# EAGLE library part 1705566 (library con-phoenix-3.81)
MKDSD 1,5/ 4-3,81 Printklemme Nennstrom: 8 A Bemessungsspannung: 200 V Raster: 3,81 mm Polzahl: 4 Montageart: Löten Anschlussart: Schraubanschluss Anschlussrichtung vom Leiter zur Platine: 0° Source: http://eshop.phoenixcontact.com .. 1705566.pdf
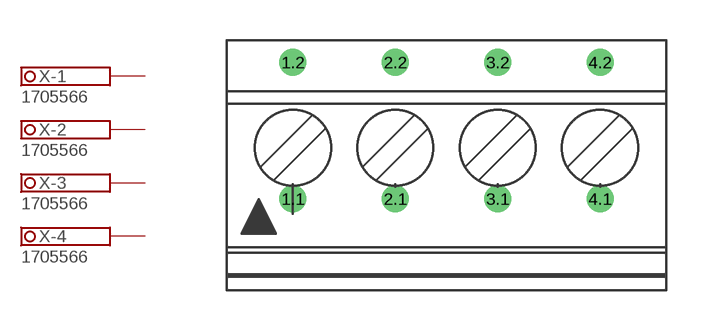
[diagram p3: symbol with the pads of 1705566; footprint 1705566]

Designator prefix X; gates -1=SCHRAUBKLEMME_2 -2=SCHRAUBKLEMME_2 -3=SCHRAUBKLEMME_2 -4=SCHRAUBKLEMME_2

## 1705566 (OC_FARNELL: unknown; OC_NEWARK: unknown)  [1705566]
1.1  -1:1A  pas
1.2  -1:1B  pas
2.1  -2:1A  pas
2.2  -2:1B  pas
3.1  -3:1A  pas
3.2  -3:1B  pas
4.1  -4:1A  pas
4.2  -4:1B  pas

## Footprint 1705566 (pad centres in mm)
MKDSD 1,5/ 4-3,81 Printklemme Nennstrom: 8 A Bemessungsspannung: 200 V Raster: 3,81 mm Polzahl: 4 Montageart: Löten Anschlussart: Schraubanschluss Anschlussrichtung vom Leiter zur Platine: 0° Source: http://eshop.phoenixcontact.com .. 1705566.pdf
drill 0.5 pad 0.9 round: 1.1 -5.715,-1.25; 1.2 -5.715,3.83; 2.1 -1.905,-1.25; 2.2 -1.905,3.83; 3.1 1.905,-1.25; 3.2 1.905,3.83; 4.1 5.715,-1.25; 4.2 5.715,3.83